# EAGLE library part RPI_HEADER_STUB (library Puffin)
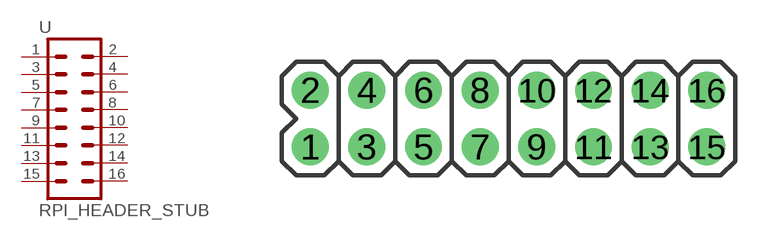
[diagram p8: symbol with the pads of RPI_HEADER_STUB; footprint RPI_HEADER_STUB]

Designator prefix -

## RPI_HEADER_STUB  [RPI_HEADER_STUB]
1  1  pwr
2  2  pwr
3  3
4  4  pwr
5  5
6  6  pwr
7  7
8  8
9  9  pwr
10  10
11  11
12  12
13  13
14  14  pwr
15  15
16  16

## Footprint RPI_HEADER_STUB (pad centres in mm)
drill 1.016 pad 1.651: 1 -8.89,-1.27; 2 -8.89,1.27; 3 -6.35,-1.27; 4 -6.35,1.27; 5 -3.81,-1.27; 6 -3.81,1.27; 7 -1.27,-1.27; 8 -1.27,1.27; 9 1.27,-1.27; 10 1.27,1.27; 11 3.81,-1.27; 12 3.81,1.27; 13 6.35,-1.27; 14 6.35,1.27; 15 8.89,-1.27; 16 8.89,1.27